# Altium schematic symbol library L6924U.SchLib: 1 symbol
Pins are listed as number, name and electrical type; pins without a type are passive.

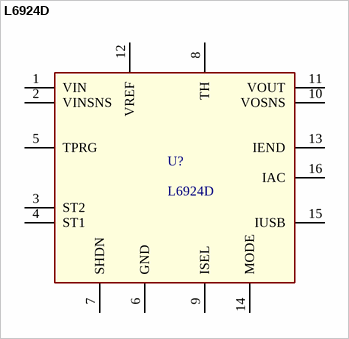
[diagram p0: symbol L6924D]

## L6924D
designator U?
Battery charger system / with integrated power switch for Li-Ion/Li-Polymer
footprint VFQFPN16 (VFQFPN16 (3 x 3 mm))
pins: 1 VIN, 2 VINSNS, 3 ST2, 4 ST1, 5 TPRG, 6 GND, 7 SHDN, 8 TH, 9 ISEL, 10 VOSNS, 11 VOUT, 12 VREF, 13 IEND, 14 MODE, 15 IUSB, 16 IAC